# Altium footprint library PcbLib1.PcbLib: 264 footprints (part 10 of 17)
Each footprint in its own frame and in the unit in brackets; x right, y up, seen from the top. Pads: shape width x height; smd on the part's side, far side on the other; paste and mask are expansions set on the pad; w line width, h text height; cw(c..) or ccw(c..) is an arc to the next point about the centre after c.
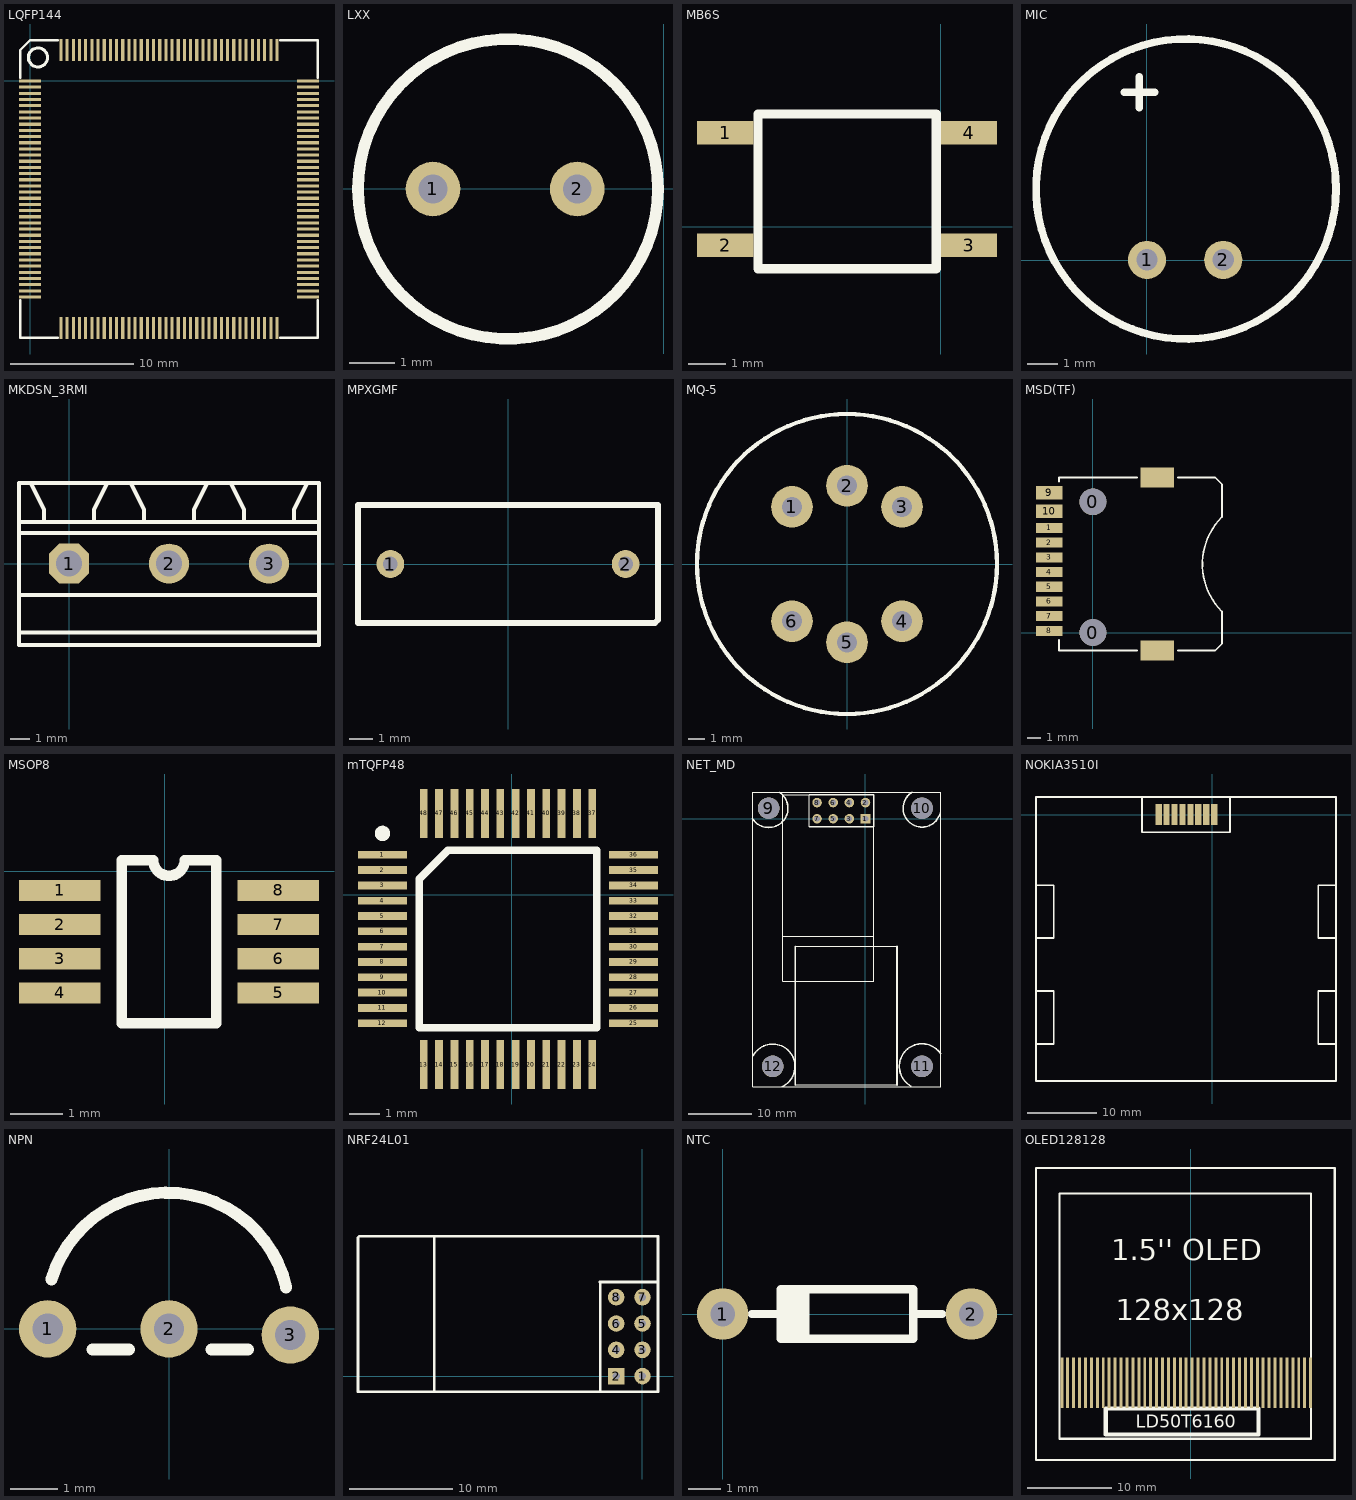
[diagram p9: the footprints below, top view; thin cyan lines are the x and y axes]

## LQFP144 [mm]
pads (144):
  rect 1.8x0.254 smd: 1(-0.009,0.001) 2(-0.009,-0.499) 3(-0.009,-0.999) 4(-0.009,-1.499) 5(-0.009,-1.999) 6(-0.009,-2.499) 7(-0.009,-2.999) 8(-0.009,-3.499) 9(-0.009,-3.999) 10(-0.009,-4.499) 11(-0.009,-4.999) 12(-0.009,-5.499) 13(-0.009,-5.999) 14(-0.009,-6.499) 15(-0.009,-6.999) 16(-0.009,-7.499) 17(-0.009,-7.999) 18(-0.009,-8.499) 19(-0.009,-8.999) 20(-0.009,-9.499) 21(-0.009,-9.999) 22(-0.009,-10.499) 23(-0.009,-10.999) 24(-0.009,-11.499) 25(-0.009,-11.999) 26(-0.009,-12.499) 27(-0.009,-12.999) 28(-0.009,-13.499) 29(-0.009,-13.999) 30(-0.009,-14.499) 31(-0.009,-14.999) 32(-0.009,-15.499) 33(-0.009,-15.999) 34(-0.009,-16.499) 35(-0.009,-16.999) 36(-0.009,-17.499) 73(22.491,-17.499) 74(22.491,-16.999) 75(22.491,-16.499) 76(22.491,-15.999) 77(22.491,-15.499) 78(22.491,-14.999) 79(22.491,-14.499) 80(22.491,-13.999) 81(22.491,-13.499) 82(22.491,-12.999) 83(22.491,-12.499) 84(22.491,-11.999) 85(22.491,-11.499) 86(22.491,-10.999) 87(22.491,-10.499) 88(22.491,-9.999) 89(22.491,-9.499) 90(22.491,-8.999) 91(22.491,-8.499) 92(22.491,-7.999) 93(22.491,-7.499) 94(22.491,-6.999) 95(22.491,-6.499) 96(22.491,-5.999) 97(22.491,-5.499) 98(22.491,-4.999) 99(22.491,-4.499) 100(22.491,-3.999) 101(22.491,-3.499) 102(22.491,-2.999) 103(22.491,-2.499) 104(22.491,-1.999) 105(22.491,-1.499) 106(22.491,-0.999) 107(22.491,-0.499) 108(22.491,0.001)
  rect 0.254x1.8 smd: 37(2.491,-19.999) 38(2.991,-19.999) 39(3.491,-19.999) 40(3.991,-19.999) 41(4.491,-19.999) 42(4.991,-19.999) 43(5.491,-19.999) 44(5.991,-19.999) 45(6.491,-19.999) 46(6.991,-19.999) 47(7.491,-19.999) 48(7.991,-19.999) 49(8.491,-19.999) 50(8.991,-19.999) 51(9.491,-19.999) 52(9.991,-19.999) 53(10.491,-19.999) 54(10.991,-19.999) 55(11.491,-19.999) 56(11.991,-19.999) 57(12.491,-19.999) 58(12.991,-19.999) 59(13.491,-19.999) 60(13.991,-19.999) 61(14.491,-19.999) 62(14.991,-19.999) 63(15.491,-19.999) 64(15.991,-19.999) 65(16.491,-19.999) 66(16.991,-19.999) 67(17.491,-19.999) 68(17.991,-19.999) 69(18.491,-19.999) 70(18.991,-19.999) 71(19.491,-19.999) 72(19.991,-19.999) 109(19.991,2.501) 110(19.491,2.501) 111(18.991,2.501) 112(18.491,2.501) 113(17.991,2.501) 114(17.491,2.501) 115(16.991,2.501) 116(16.491,2.501) 117(15.991,2.501) 118(15.491,2.501) 119(14.991,2.501) 120(14.491,2.501) 121(13.991,2.501) 122(13.491,2.501) 123(12.991,2.501) 124(12.491,2.501) 125(11.991,2.501) 126(11.491,2.501) 127(10.991,2.501) 128(10.491,2.501) 129(9.991,2.501) 130(9.491,2.501) 131(8.991,2.501) 132(8.491,2.501) 133(7.991,2.501) 134(7.491,2.501) 135(6.991,2.501) 136(6.491,2.501) 137(5.991,2.501) 138(5.491,2.501) 139(4.991,2.501) 140(4.491,2.501) 141(3.991,2.501) 142(3.491,2.501) 143(2.991,2.501) 144(2.491,2.501)
Top Overlay:
  circle w0.254: c0.624,1.905 r0.773
  lines w0.2: -0.809,-17.749 -0.809,-20.799 2.241,-20.799 ; -0.809,0.251 -0.809,2.501 -0.009,3.301 2.241,3.301 ; 20.241,-20.799 23.291,-20.799 23.291,-17.749 ; 20.241,3.301 23.291,3.301 23.291,0.251

## LXX [mm]
height 10
pads (2):
  round 1.2 hole 0.635: 1(-5.08,0) 2(-1.905,0)
Top Overlay:
  circle w0.254: c-3.429,0 r3.302

## MB6S [mil]
height 78.74
pads (4):
  rect 60x25 smd: 1(-230,100) 2(-230,-20) 3(30,-20) 4(30,100)
Top Overlay:
  lines w10: -195,-45 -195,120 -5,120 -5,-45 -100,-45 -195,-45

## MIC [mil]
pads (2):
  round 50 hole 28: 1(0.42,0.29) 2(100.42,0.29)
Top Overlay:
  circle w10: c51.58,93.29 r196.85
  lines w10: -29.58,220.29 10.42,220.29 ; -9.58,200.29 -9.58,240.29

## MKDSN_3RMI [mil]
pads (3):
  oct 80x80 hole 52: 1(0,0)
  round 80 hole 52: 2(200,0) 3(400,0)
Top Overlay:
  lines w8: -100,-138.33 500,-138.33 ; -100,-63.33 500,-63.33 ; -100,61.67 500,61.67 ; -100,83.33 500,83.33 ; -75,158.33 -50,108.33 -50,83.33 ; 50,83.33 50,108.33 75,158.33 ; 125,158.33 150,108.33 150,83.33 ; 250,83.33 250,108.33 275,158.33 ; 325,158.33 350,108.33 350,83.33 ; 450,83.33 450,108.33 475,158.33 ; -100,-163.33 500,-163.33 500,161.67 -100,161.67 -100,-163.33

## MPXGMF [mm] "MPXGMF"
height 12
pads (2):
  round 1.2 hole 0.635: 1(-5.08,0) 2(5.08,0)
Top Overlay:
  lines w0.254: -6.477,-2.54 -6.477,2.54 6.477,2.54 6.477,-2.413 6.35,-2.54 -6.477,-2.54

## MQ-5 [mm] "GAS_SENSOR"
height 17
pads (6):
  round 2.5 hole 1.2: 1(-3.302,3.429) 2(0,4.699) 3(3.302,3.429) 4(3.302,-3.429) 5(0,-4.699) 6(-3.302,-3.429)
Top Overlay:
  circle w0.254: c0,0 r9

## MSD(TF) [mm]
pads (14):
  round 2 hole 2: 0(0,0) 0(0,9.779)
  rect 2x0.75 smd: 1(-3.26,7.829) 2(-3.26,6.729) 3(-3.26,5.629) 4(-3.26,4.529) 5(-3.26,3.429) 6(-3.26,2.329) 7(-3.26,1.229) 8(-3.26,0.129)
  rect 2x1 smd: 9(-3.26,10.465) 10(-3.26,9.08)
  rect 2.5x1.5 smd: ""(4.826,-1.346) ""(4.826,11.608)
Top Overlay:
  lines w0.127: -2.54,-1.346 3.302,-1.346 ; -2.54,11.303 -2.54,11.608 3.302,11.608 ; -2.535,-1.346 -2.535,-0.546 ; 6.35,-1.346 9.144,-1.346 9.652,-0.838 9.652,1.321 9.652,1.575 cw(c13.188,5.11) 9.652,8.646 9.652,11.1 9.144,11.608 6.35,11.608

## MSOP8 [mm] "Shrink Small Outline, MSOP; 8 Leads; Body Width 3 mm; Pitch 0.65 mm"
height 1.1
pads (8):
  rect 1.55x0.4 smd: 1(-1.991,-0.366) 2(-1.991,-1.016) 3(-1.991,-1.666) 4(-1.991,-2.316) 5(2.159,-2.316) 6(2.159,-1.666) 7(2.159,-1.016) 8(2.159,-0.366)
Top Overlay:
  lines w0.2: -0.816,-2.891 0.984,-2.891 0.984,0.209 0.384,0.209 cw(c0.084,0.209) -0.216,0.209 -0.816,0.209 -0.816,-2.891

## mTQFP48 [mm] "5.8mm"
height 1
pads (48):
  rect 1.6x0.254 smd: 1(-4.223,1.3) 2(-4.223,0.8) 3(-4.223,0.3) 4(-4.223,-0.2) 5(-4.223,-0.7) 6(-4.223,-1.2) 7(-4.223,-1.7) 8(-4.223,-2.2) 9(-4.223,-2.7) 10(-4.223,-3.2) 11(-4.223,-3.7) 12(-4.223,-4.2) 25(3.977,-4.2) 26(3.977,-3.7) 27(3.977,-3.2) 28(3.977,-2.7) 29(3.977,-2.2) 30(3.977,-1.7) 31(3.977,-1.2) 32(3.977,-0.7) 33(3.977,-0.2) 34(3.977,0.3) 35(3.977,0.8) 36(3.977,1.3)
  rect 0.254x1.6 smd: 13(-2.873,-5.55) 14(-2.373,-5.55) 15(-1.873,-5.55) 16(-1.373,-5.55) 17(-0.873,-5.55) 18(-0.373,-5.55) 19(0.127,-5.55) 20(0.627,-5.55) 21(1.127,-5.55) 22(1.627,-5.55) 23(2.127,-5.55) 24(2.627,-5.55) 37(2.627,2.65) 38(2.127,2.65) 39(1.627,2.65) 40(1.127,2.65) 41(0.627,2.65) 42(0.127,2.65) 43(-0.373,2.65) 44(-0.873,2.65) 45(-1.373,2.65) 46(-1.873,2.65) 47(-2.373,2.65) 48(-2.873,2.65)
Top Overlay:
  circle w0.25: c-4.223,2 r0.125
  lines w0.2: -3.023,-4.35 2.777,-4.35 2.777,1.45
  lines w0.254: -3.023,0.508 -2.081,1.45 ; -3.023,0.508 -3.023,-4.35 2.777,-4.35 2.777,1.45 -1.397,1.45 -2.081,1.45 ; -3.023,0.508 -2.081,1.45

## NET_MD [mm] "ALIENTEK;NET MODULE;"
height 10
pads (12):
  rect 1.5x1.5 hole 0.9: 1(0,0)
  round 1.5 hole 0.9: 2(0,2.54) 3(-2.54,0) 4(-2.54,2.54) 5(-5.08,0) 6(-5.08,2.54) 7(-7.62,0) 8(-7.62,2.54)
  round 3.4 hole 3.4: 9(-15.24,1.651) 10(8.89,1.651) 11(8.89,-38.989) 12(-14.605,-38.989)
Top Overlay:
  lines w0.178: -13,-18.5 1.27,-18.5 ; -12.7,3.81 -12.99,3.81 ; -11.09,-41.91 4.952,-41.91 ; -11.066,-20.066 4.952,-20.066 ; -8.89,-1.27 -8.89,3.81 -12.99,3.81 ; 1.27,-25.6 -13,-25.6 -13,3.8 -12.99,3.81 ; 1.27,-25.57 1.27,-1.27 ; -17.78,-42.164 -17.78,4.191 11.811,4.191 11.811,-42.164 -17.78,-42.164
  lines w0.2: -8.89,-1.27 1.27,-1.27 1.27,3.81 -8.89,3.81
  lines w0.254: -17.78,0 ccw(c-15.24,1.651) -13.589,4.191 ; -17.67,-37.273 cw(c-14.605,-38.989) -13.085,-42.156 ; -11.048,-41.91 -11.048,-20.066 ; 4.952,-41.91 4.952,-20.066 ; 7.151,-42.094 cw(c8.89,-38.989) 11.811,-36.957 ; 7.366,4.191 ccw(c8.89,1.651) 11.756,0.903

## NOKIA3510I [mm]
height 2
pads (8):
  rect 0.9x3 smd: 1(0.254,0) 2(-0.889,0) 3(-2.032,0) 4(-3.175,0) 5(-4.318,0) 6(-5.461,0) 7(-6.604,0) 8(-7.747,0)
Top Overlay:
  lines w0.254: -25.4,-33.02 -22.86,-33.02 -22.86,-25.4 -25.273,-25.4 ; -25.4,-17.78 -22.86,-17.78 -22.86,-10.16 -25.4,-10.16 ; -10.16,2.54 -10.16,-2.54 2.54,-2.54 2.54,2.54 ; 11.049,-38.354 17.78,-38.354 17.78,2.54 -25.4,2.54 -25.4,-38.354 11.557,-38.354 ; 17.653,-25.4 15.24,-25.4 15.24,-33.02 17.78,-33.02 ; 17.78,-17.78 15.24,-17.78 15.24,-10.16 17.78,-10.16
Keep-Out Layer:
  lines w0.254: -25.4,2.54 -24.13,2.54 ; -25.273,-38.354 -24.384,-38.354 -22.479,-38.354 ; -24.384,2.54 -22.733,2.54 ; -4.445,2.54 15.24,2.54 17.018,2.54 17.78,2.54 17.78,-38.227

## NPN [mm]
height 0.965
pads (3):
  round 1.2 hole 0.635: 1(-2.54,0) 2(0,0) 3(2.54,-0.127)
Top Overlay:
  lines w0.254: -2.462,1.03 cw(c-0.026,0.312) 2.452,0.869 ; -1.599,-0.433 -0.837,-0.433 ; 0.889,-0.433 1.651,-0.433

## NRF24L01 [mm] "NRF24L01_MODE"
height 10
pads (8):
  round 1.6 hole 0.7: 1(0,0) 3(0,2.54) 4(-2.54,2.54) 5(0,5.08) 6(-2.54,5.08) 7(0,7.62) 8(-2.54,7.62)
  rect 1.6x1.6 hole 0.7: 2(-2.54,0)
Top Overlay:
  lines w0.254: -20.142,-1.5 -20.142,13.5 ; -4.089,-1.5 -4.089,9.068 -4.115,9.093 1.5,9.093 ; -27.5,-1.5 -27.5,13.394 -27.394,13.5 1.5,13.5 1.5,-1.5 -27.5,-1.5

## NTC [mil] "NTC"
height 78.74
pads (2):
  round 62 hole 30: 1(0,0) 2(300,0)
Top Overlay:
  rectangle: 70,-30 100,30
  lines w10: 35,0 70,0 ; 100,-30 100,5 100,30 ; 230,0 265,0 ; 70,-30 70,30 230,30 230,-30 70,-30

## OLED128128 [mm] "OLED"
height 2
pads (43):
  rect 0.35x6 smd: 1(-15.24,16.891) 2(-14.54,16.891) 3(-13.84,16.891) 4(-13.14,16.891) 5(-12.44,16.891) 6(-11.74,16.891) 7(-11.04,16.891) 8(-10.34,16.891) 9(-9.64,16.891) 10(-8.94,16.891) 11(-8.24,16.891) 12(-7.54,16.891) 13(-6.84,16.891) 14(-6.14,16.891) 15(-5.44,16.891) 16(-4.74,16.891) 17(-4.04,16.891) 18(-3.34,16.891) 19(-2.64,16.891) 20(-1.94,16.891) 21(-1.24,16.891) 22(-0.54,16.891) 23(0.16,16.891) 24(0.86,16.891) 25(1.56,16.891) 26(2.26,16.891) 27(2.96,16.891) 28(3.66,16.891) 29(4.36,16.891) 30(5.06,16.891) 31(5.76,16.891) 32(6.46,16.891) 33(7.16,16.891) 34(7.86,16.891) 35(8.56,16.891) 36(9.26,16.891) 37(9.96,16.891) 38(10.66,16.891) 39(11.36,16.891) 40(12.06,16.891) 41(12.76,16.891) 42(13.46,16.891) 43(14.16,16.891)
Top Overlay:
  lines w0.254: -18.288,7.747 17.018,7.747 17.018,42.291 -18.288,42.291 -18.288,7.747 ; -15.494,10.287 14.224,10.287 14.224,39.243 -15.494,39.243 -15.494,10.287
  lines w0.5: -10.033,10.795 -10.033,13.843 8.001,13.843 8.001,10.795 -10.033,10.795
  text "1.5'' OLED" at -9.398,31.369 h2.5
  text "128x128" at -8.89,24.257 h2.5
  text "LD50T6160" at -6.477,11.557 h1.52